# Altium schematic symbol library CC0603JRNPO9BN220.SchLib: 1 symbol
Pins are listed as number, name and electrical type; pins without a type are passive.

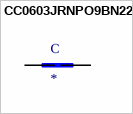
[diagram p0: symbol CC0603JRNPO9BN220]

## CC0603JRNPO9BN220
designator C
22pF Â±5% 50V Ceramic Capacitor C0G, NP0 0603 (1608 Metric); MF: Yageo; MP: CC0603JRNPO9BN220; DigiKey-Purchase-URL: https://snapeda.com/shop?store=DigiKey&id=580178; Package: 0603 Yageo; Mouser-Purchase-URL: https://snapeda.com/shop?store=Mouser&id=580178; Digi-Key_Part_Number: 311-1062-1-ND; SnapEDA_Link: https://www.snapeda.com/parts/CC0603JRNPO9BN220/Yageo/view-part/580178/?ref=snap; Arrow_Electronics-Purchase-URL: https://snapeda.com/shop?store=Arrow+Electronics&id=580178; Value: *
pins: 1, 2